# EAGLE library part IN-14 (library nixietubes-russian)
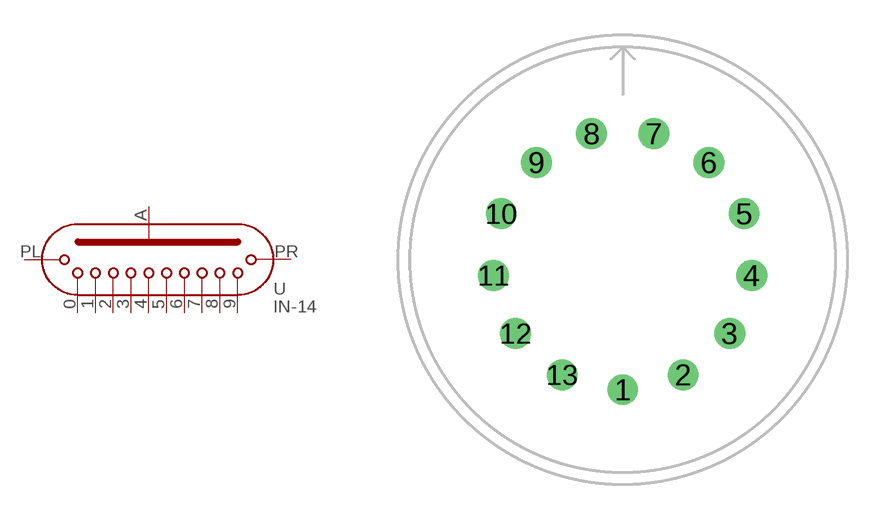
[diagram p2: symbol with the pads of IN-14; footprint IN-14]

Designator prefix -

## IN-14  [IN-14]
1  A
2  PL
3  1
4  2
5  3
6  4
7  5
8  6
9  7
10  8
11  9
12  0
13  PR

## Footprint IN-14 (pad centres in mm)
This is the footprint suitable for the following nixie tubes: * IN-14 Tube diameter: 19mm Height from PCB: 55mm Symbol Height: 18mm
drill 0.8: 1 0,-5.5; 2 2.56,-4.87; 3 4.53,-3.12; 4 5.46,-0.663; 5 5.14,1.95; 6 3.65,4.12; 7 1.32,5.34; 8 -1.32,5.34; 9 -3.65,4.12; 10 -5.14,1.95; 11 -5.46,-0.663; 12 -4.53,-3.12; 13 -2.56,-4.87